# Altium schematic symbol library vitech_capacitors.SchLib: 4 symbols
Pins are listed as number, name and electrical type; pins without a type are passive.

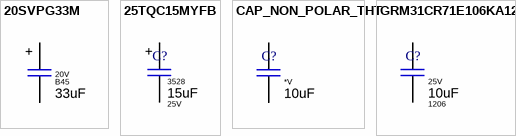
[diagram p0: symbols 20SVPG33M to GRM31CR71E106KA12L]

## 20SVPG33M
designator C?, comment Package: B45  Voltage: 20V  (hidden comment: 33uF)
Aluminium Organic Polymer Capacitors 20volt 33uF 27mOhms 5x4.5mm OS-CON; Part Number: 20SVPG33M; Manufacturer: Panasonic; Tolerance: 20 %; ComponentLink1Description: Datasheet; ComponentLink1URL: https://industrial.panasonic.com/cdbs/www-data/pdf/AAB8000/AAB8000C175.pdf; Component Type: SMD; Value: 33uF
footprint 20SVPG33M
pins: 1, 2
text: +

## 25TQC15MYFB
designator C?, comment Voltage: 25V  Package: 3528  (hidden comment: 15uF)
Cap Tant Solid 15uF 25V B2 CASE 20% (3.5 X 2.8 X 1.9mm) SMD 3528 0.1 Ohm 105 C Embossed T/R; Manufacturer: Panasonic; Part Number: 25TQC15MYFB; ESR: 0.1Ohm; ComponentLink1Description: Datasheet; ComponentLink1URL: https://industrial.panasonic.com/cdbs/www-data/pdf/AAA8000/AAA8000C62.pdf; Tolerance: ±20%; Component Type: SMD; Value: 15uF
footprint 25TQC15MYFB
pins: 1, 2
text: +

## CAP_NON_POLAR_THT
designator C?, comment value 10uF  Voltage: *V  (hidden comment: *uF)
Multilayer Ceramic Capacitors MLCC - SMD/SMT 10 uF 25 VDC 10% 1206 X7R; Manufacturer: Murata; Part Number: GRM31CR71E106KA12L; ComponentLink1Description: Datasheet; ComponentLink1URL: https://eu.mouser.com/datasheet/2/281/1/GRM31CR71E106KA12_01CA-1987921.pdf; Tolerance: 10 %; Component Type: THT; Package: 1206
footprint CAP: MKS2 (W=2.50MM)
footprint CAP: MKS2 (W=3.50MM)
footprint CAP: PHE845VD5220MR30L2
footprint CAP: FKP2 (W=5.5MM)
footprint CAP: FKP2 (W=4.5MM)
footprint CAP: B32923 (26.5x12x22 mm)
footprint CAP: B32922 (18x7x12.5mm)
footprint CAP: B32922 (18x5x15 mm)
footprint CAP: B32774D (w=22mm)
footprint CAP: B32774D (w=15mm)
footprint CAP: B32676
footprint CAP: B32674
footprint CAP: B32654
footprint CAP: B32653A
footprint CAP: B32522
footprint CAP: B32521
footprint CAP: B32021 (13x5x10 mm)
footprint CAP: AY2102M29Y5US63L7
pins: 1, 2

## GRM31CR71E106KA12L
designator C?, comment Package: 1206  Voltage: 25V  (hidden comment: 10uF)
Multilayer Ceramic Capacitors MLCC - SMD/SMT 10 uF 25 VDC 10% 1206 X7R; Manufacturer: Murata; Part Number: GRM31CR71E106KA12L; ComponentLink1Description: Datasheet; ComponentLink1URL: https://eu.mouser.com/datasheet/2/281/1/GRM31CR71E106KA12_01CA-1987921.pdf; Tolerance: 10 %; Component Type: SMD; Value: 10uF
footprint GRM31CR71E106KA12L
pins: 1, 2